# EAGLE library part USB-B (library me433)
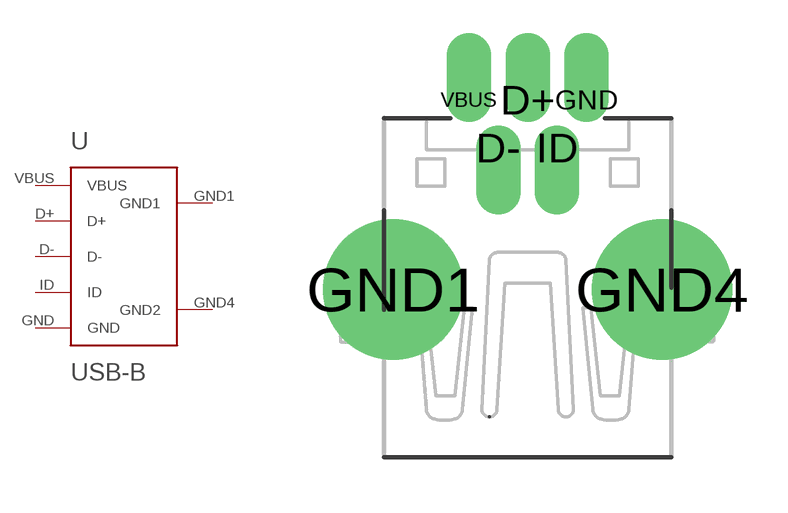
[diagram p1: symbol with the pads of USB-MINIB-THM-MOLEX; footprint USB-MINIB-THM-MOLEX]

Designator prefix -

## USB-B  [USB-MINIB-THM-MOLEX]
D+  D+
D-  D-
GND  GND
GND1  GND1
GND4  GND2
ID  ID
VBUS  VBUS

## Footprint USB-MINIB-THM-MOLEX (pad centres in mm)
drill 0.7 offset: D+ 0,9.72; D- -0.8,8.42; GND 1.6,9.72; ID 0.8,8.42; VBUS -1.6,9.72
drill 2 pad 3.81: GND1 -3.65,4.57; GND4 3.65,4.57